# EAGLE library part SM06B-SRSS-TB(LF)(SN) (library FA3D_lib)
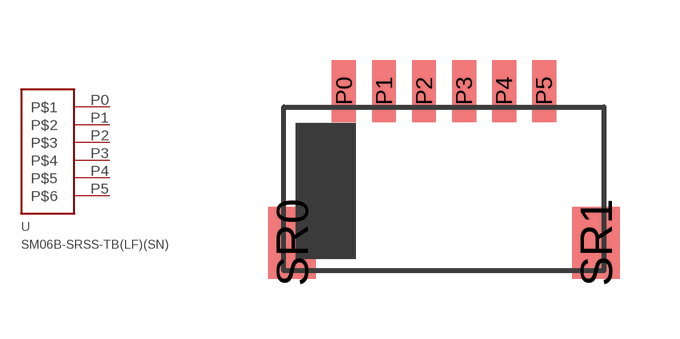
[diagram p2: symbol with the pads of SR-6; footprint SR-6]

Designator prefix -

## SM06B-SRSS-TB(LF)(SN)  [SR-6]
P0  P$1
P1  P$2
P2  P$3
P3  P$4
P4  P$5
P5  P$6

## Footprint SR-6 (pad centres in mm)
smd 0.6 x 1.55: P0 -6.3,3.8; P1 -5.3,3.8; P2 -4.3,3.8; P3 -3.3,3.8; P4 -2.3,3.8; P5 -1.3,3.8
smd 1.2 x 1.8: SR0 -7.6,0; SR1 0,0